# Altium schematic symbol library L78M05CDT-TR.SCHLIB: 1 symbol
Pins are listed as number, name and electrical type; pins without a type are passive.

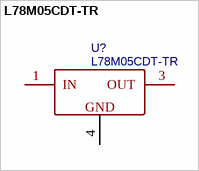
[diagram p0: symbol L78M05CDT-TR]

## L78M05CDT-TR
designator U?
BOM_Manufacturer: STMicroelectronics; BOM_Supplier: LCSC; BOM_Manufacturer Part: L78M05CDT-TR; BOM_Supplier Part: C55509; BOM_JLCPCB Part Class: Extended Part; spicePre: U; spiceSymbolName: L78M05CDT-TR
footprint TO-252-2_L6.5-W6.1-P4.58-LS10.0-TL
pins: 1 IN, 3 OUT, 4 GND